# Altium schematic symbol library ECEN403_Parts.SchLib: 1 symbol
Pins are listed as number, name and electrical type; pins without a type are passive.

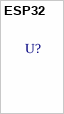
[diagram p0: symbol ESP32]

## ESP32
designator U?